# EAGLE library part TLW-140-05-G-S (library SAMTEC-Txx_By_element14_Batch_1)
LOW PROFILE HEADER
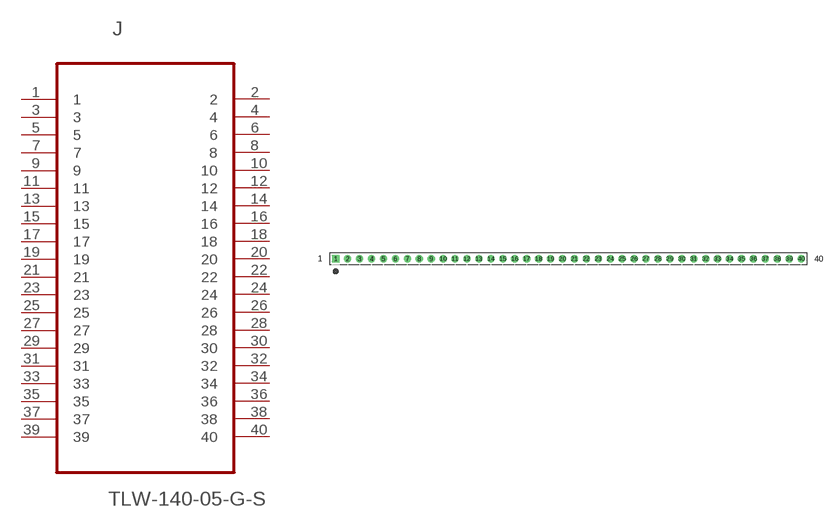
[diagram p385: symbol with the pads of SAMTEC_TLW-140-05-G-S; footprint SAMTEC_TLW-140-05-G-S]

Designator prefix J

## TLW-140-05-G-S (MPN: TLW-140-05-G-S; OC_FARNELL: -; OC_NEWARK: 12P0626; PACKAGE: LOW PROFILE HEADER, SINGLE ROW, 40 way; SUPPLIER: SAMTEC)  [SAMTEC_TLW-140-05-G-S]
1  1  pas
2  2  pas
3  3  pas
4  4  pas
5  5  pas
6  6  pas
7  7  pas
8  8  pas
9  9  pas
10  10  pas
11  11  pas
12  12  pas
13  13  pas
14  14  pas
15  15  pas
16  16  pas
17  17  pas
18  18  pas
19  19  pas
20  20  pas
21  21  pas
22  22  pas
23  23  pas
24  24  pas
25  25  pas
26  26  pas
27  27  pas
28  28  pas
29  29  pas
30  30  pas
31  31  pas
32  32  pas
33  33  pas
34  34  pas
35  35  pas
36  36  pas
37  37  pas
38  38  pas
39  39  pas
40  40  pas

## Footprint SAMTEC_TLW-140-05-G-S (pad centres in mm)
drill 1.016 square: 1 -99.06,0
drill 1.016: 2 -96.52,0; 3 -93.98,0; 4 -91.44,0; 5 -88.9,0; 6 -86.36,0; 7 -83.82,0; 8 -81.28,0; 9 -78.74,0; 10 -76.2,0; 11 -73.66,0; 12 -71.12,0; 13 -68.58,0; 14 -66.04,0; 15 -63.5,0; 16 -60.96,0; 17 -58.42,0; 18 -55.88,0; 19 -53.34,0; 20 -50.8,0; 21 -48.26,0; 22 -45.72,0; 23 -43.18,0; 24 -40.64,0; 25 -38.1,0; 26 -35.56,0; 27 -33.02,0; 28 -30.48,0; 29 -27.94,0; 30 -25.4,0; 31 -22.86,0; 32 -20.32,0; 33 -17.78,0; 34 -15.24,0; 35 -12.7,0; 36 -10.16,0; 37 -7.62,0; 38 -5.08,0; 39 -2.54,0; 40 0,0